# Altium footprint library Chip.PcbLib: 37 footprints (part 1 of 3)
Each footprint in its own frame and in the unit in brackets; x right, y up, seen from the top. Pads: shape width x height; smd on the part's side, far side on the other; paste and mask are expansions set on the pad; w line width, h text height; cw(c..) or ccw(c..) is an arc to the next point about the centre after c.
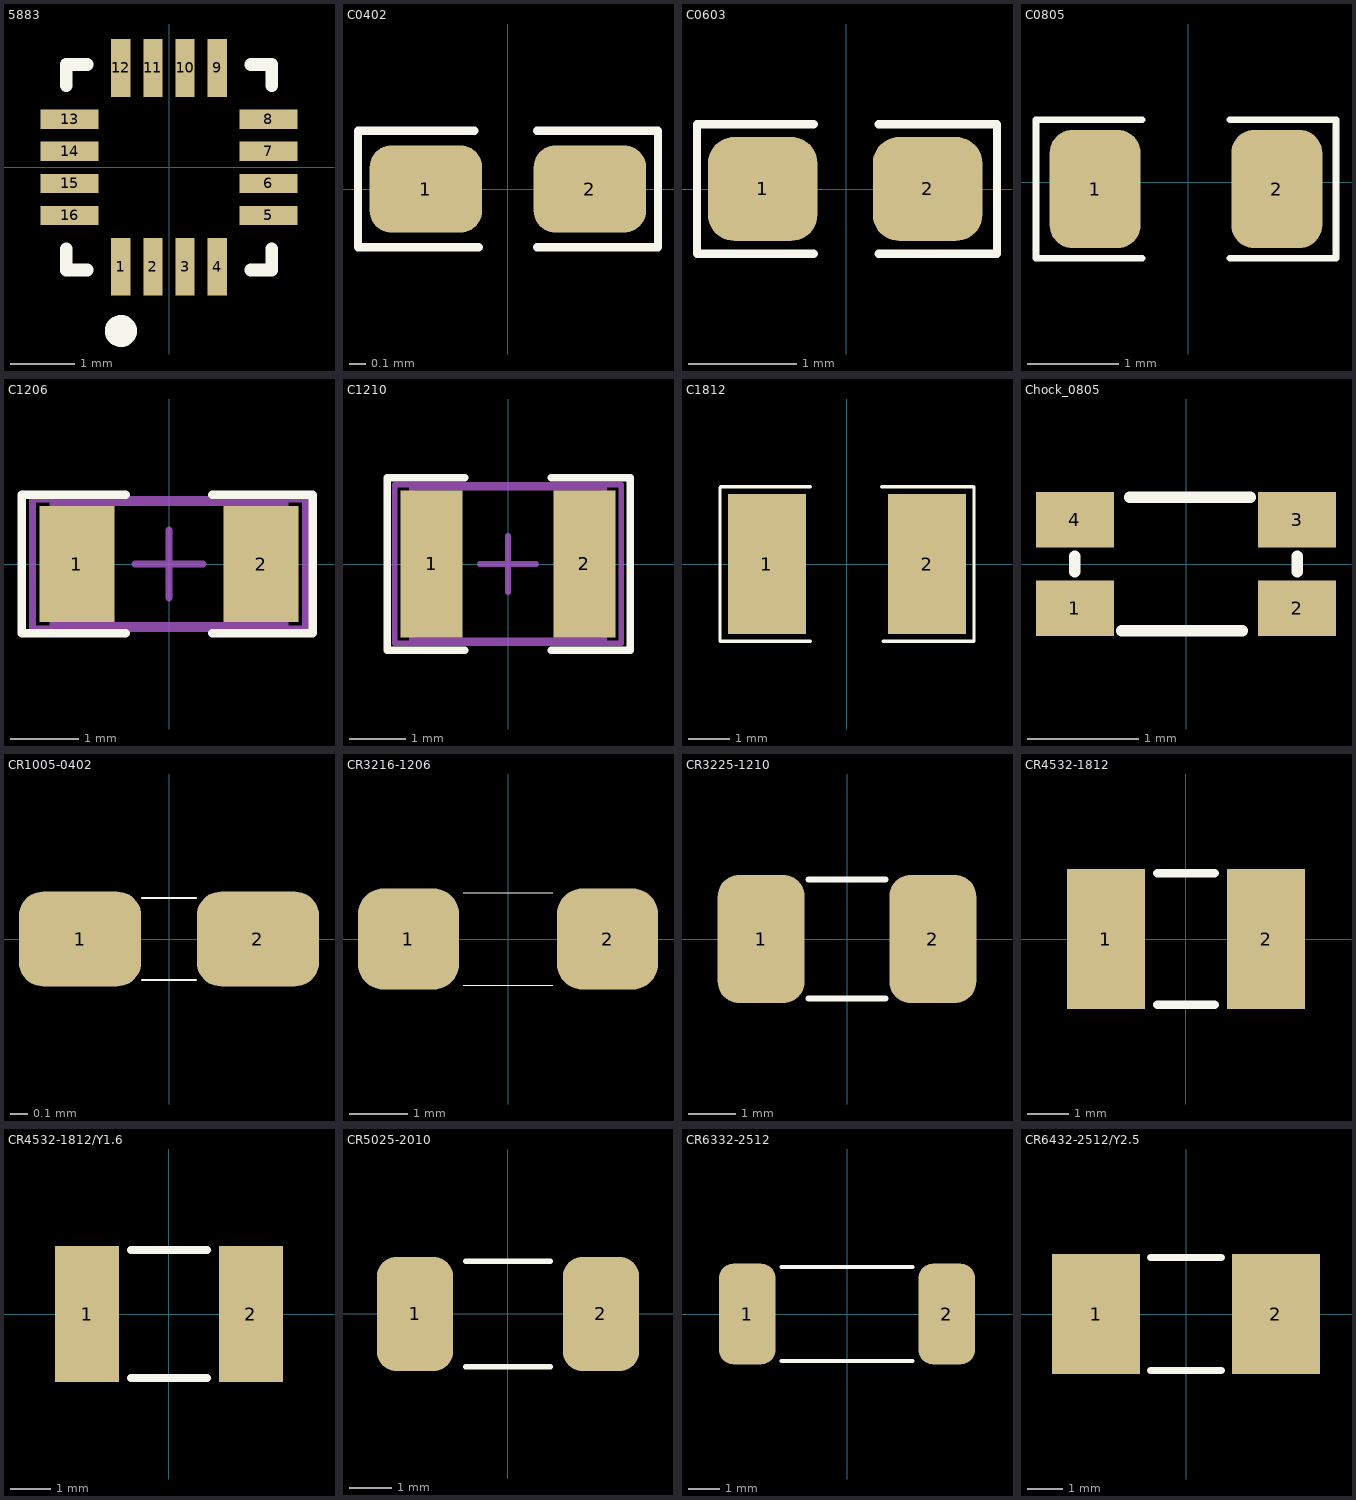
[diagram p0: the footprints below, top view; thin cyan lines are the x and y axes]

## 5883 [mm]
pads (16):
  rect 0.3x0.9 smd: 1(-0.75,-1.55) 2(-0.25,-1.55) 3(0.25,-1.55) 4(0.75,-1.55) 9(0.75,1.55) 10(0.25,1.55) 11(-0.25,1.55) 12(-0.75,1.55)
  rect 0.9x0.3 smd: 5(1.55,-0.75) 6(1.55,-0.25) 7(1.55,0.25) 8(1.55,0.75) 13(-1.55,0.75) 14(-1.55,0.25) 15(-1.55,-0.25) 16(-1.55,-0.75)
Top Overlay:
  circle w0.25: c-0.75,-2.55 r0.125
  lines w0.2: -1.6,-1.275 -1.6,-1.6 -1.275,-1.6 ; -1.6,1.275 -1.6,1.6 -1.275,1.6 ; 1.275,-1.6 1.6,-1.6 1.6,-1.275 ; 1.275,1.6 1.6,1.6 1.6,1.275

## C0402 [mm] "Chip Capacitor ; Body 1.1 x 0.5 mm (L x W )"
height 0.4
pads (2):
  rrect50% 0.686x0.533 smd: 1(-0.5,0) 2(0.5,0)
Top Overlay:
  lines w0.051: -0.203,0.356 -0.914,0.356 -0.914,-0.356 -0.178,-0.356 ; 0.178,-0.356 0.916,-0.356 0.916,0.356 ; 0.178,0.356 0.914,0.356

## C0603 [mil] "Chip Capacitor,Body 1.6mm x 0.8mm(L x W)"
height 33.46
pads (2):
  rrect50% 40x38 smd: 1(-30.49,0.02) 2(29.75,0.02)
Top Overlay:
  lines w3: -11.81,-23.62 -54.49,-23.62 -54.49,23.62 -11.81,23.62 ; 11.81,-23.62 55.12,-23.62 55.12,23.62 11.81,23.62
3D body "Capacitor 0603 SMD.step": height 35.04, standoff -0.39, extent -51.66,-19.4 50.7,19.97

## C0805 [mm] "Chip Capacitor,Body   (L x W)"
height 0.85
pads (2):
  rrect50% 1x1.3 smd: 1(-1.025,-0.076) 2(0.975,-0.076)
Top Overlay:
  lines w0.076: -1.675,-0.838 -0.508,-0.838 ; -1.675,-0.826 -1.675,0.686 -0.508,0.686 ; 0.458,-0.838 1.626,-0.838 ; 0.458,0.686 1.626,0.686 ; 1.625,-0.826 1.625,0.674
3D body "Capacitor 0805 SMD.step": height 0.93, standoff -0.01, extent -1.526,-0.769 1.474,0.631

## C1206 [mm] "Chip Capacitor, Body 3.2x1.6mm, IPC High Density"
height 1.3
pads (2):
  rect 1.1x1.7 smd: 1(-1.35,0) 2(1.35,0)
Top Overlay:
  lines w0.127: -0.635,-1.016 -2.159,-1.016 -2.159,1.016 -0.635,1.016 ; 0.635,-1.016 2.108,-1.016 2.108,0.991 ; 0.635,1.016 2.108,1.016
Mechanical 13:
  lines w0.1: -1.7,-0.9 -1.7,0.9 1.7,0.9 1.7,-0.9 -1.7,-0.9
Mechanical 15:
  lines w0.1: -0.5,0 0.5,0 ; 0,-0.5 0,0.5 ; -2,-0.95 -2,0.95 2,0.95 2,-0.95 -2,-0.95
3D body: height 1.3, standoff 0, extent -1.7,-0.9 1.7,0.9

## C1210 [mm] "Chip Capacitor, Body 3.2x2.5mm, IPC High Density"
height 1.3
pads (2):
  rect 1.1x2.6 smd: 1(-1.35,0) 2(1.35,0)
Top Overlay:
  lines w0.127: -0.762,-1.524 -2.134,-1.524 -2.134,1.524 -0.762,1.524 ; 0.762,-1.524 2.159,-1.524 2.159,1.524 0.762,1.524
Mechanical 13:
  lines w0.1: -1.7,-1.35 1.7,-1.35 1.7,1.35 -1.7,1.35 -1.7,-1.35
Mechanical 15:
  lines w0.1: -0.5,0 0.5,0 ; 0,-0.5 0,0.5 ; -2,-1.4 2,-1.4 2,1.4 -2,1.4 -2,-1.4
3D body: height 1.3, standoff 0, extent -1.7,-1.35 1.7,1.35

## C1812 [mm] "Chip Capacitor; Body 4.5 x 3.2 mm (LxW typ)"
height 1.35
pads (2):
  rect 1.9x3.4 smd: 1(-1.95,0) 2(1.95,0)
Top Overlay:
  lines w0.076: -0.889,-1.88 -3.09,-1.88 -3.09,1.863 -3.073,1.88 -0.889,1.88 ; 0.847,1.88 3.048,1.88 ; 0.872,-1.88 3.073,-1.88 ; 3.09,-1.88 3.09,1.88

## Chock_0805 [mm] "Chip Common Mode Choke Coil, 2.0x1.2mm."
height 1.2
pads (4):
  rect 0.7x0.5 smd: 1(-1,-0.4) 2(1,-0.4) 3(1,0.4) 4(-1,0.4)
Top Overlay:
  lines w0.102: -1,-0.07 -1,0.07 ; -0.58,-0.6 0.508,-0.6 ; -0.508,0.6 0.58,0.6 ; 1,-0.07 1,0.07

## CR1005-0402 [mm] "Chip Resistor; Body 1.1 x 0.5 mm (LxW typ)"
height 0.4
pads (2):
  rrect50% 0.686x0.533 smd: 1(-0.5,0) 2(0.5,0)
Top Overlay:
  lines w0.01: -0.152,-0.23 0.152,-0.23 ; -0.152,0.23 0.152,0.23

## CR3216-1206 [mil] "Chip Resistor; Body 3.2 x 1.6 mm (LxW typ)"
height 27.95
pads (2):
  rrect50% 68x68 smd: 1(-67,0) 2(67,0)
Top Overlay:
  lines w0.39: -30,-31 30,-31 ; -30,31 30,31

## CR3225-1210 [mil] "Chip Resistor; Body 3.2 x 2.5 mm (LxW typ)"
height 27.95
pads (2):
  rrect50% 72x106.3 smd: 1(-71,0) 2(71,0)
Top Overlay:
  lines w5: -32,-49.21 32,-49.21 ; -32,49.21 32,49.21

## CR4532-1812 [mm] "Chip Resistor; Body 4.5 x 3.2 mm (LxW typ)"
height 1.35
pads (2):
  rect 1.9x3.4 smd: 1(-1.95,0) 2(1.95,0)
Top Overlay:
  lines w0.2: -0.7,-1.6 0.7,-1.6 ; -0.7,1.6 0.7,1.6

## CR4532-1812/Y1.6 [mm] "Chip Resistor; Body 4.5 x 3.2 mm (LxW typ)"
height 0.7
pads (2):
  rect 1.6x3.4 smd: 1(-2.05,0) 2(2.05,0)
Top Overlay:
  lines w0.2: -0.95,-1.6 0.95,-1.6 ; -0.95,1.6 0.95,1.6

## CR5025-2010 [mm] "Chip Resistor; Body 5.0 x 2.5 mm (LxW typ)"
height 0.71
pads (2):
  rrect50% 1.8x2.7 smd: 1(-2.2,0) 2(2.2,0)
Top Overlay:
  lines w0.127: -1,-1.25 1,-1.25 ; -1,1.25 1,1.25

## CR6332-2512 [mm] "Chip Resistor; Body 6.3 x 3.2 mm (LxW typ)"
height 0.71
pads (2):
  rrect50% 1.8x3.2 smd: 1(-3.175,0) 2(3.175,0)
Top Overlay:
  lines w0.127: -2.083,-1.5 2.083,-1.5 ; -2.083,1.499 2.083,1.499

## CR6432-2512/Y2.5 [mm] "Chip Resistor; Body 6.4 x 3.2 mm (LxW typ)"
height 1.2
pads (2):
  rect 2.5x3.4 smd: 1(-2.55,0) 2(2.55,0)
Top Overlay:
  lines w0.2: -1,-1.6 1,-1.6 ; -1,1.6 1,1.6